# EAGLE library part 750312495 (library Midcom Inc - EAGLE Lib V2-0)
Package Style: EE20/10/6 Mounting: THT Pins: 10 pins Bobbin: 070-4989 Best pinouts for production vary per application. Please contact Wurth Electronics Midcom, Inc. for assistance with your custom design. Website: Wurth Electronics Midcom <http://www.we-online.com/midcom> Contact us Wurth Electronics Midcom, Inc. 121 Airport Dr. Watertown, SD 57201 Phone: (605) 886-4385 Fax: (605) 886-4486 E-Mail: midcom@we-online.com
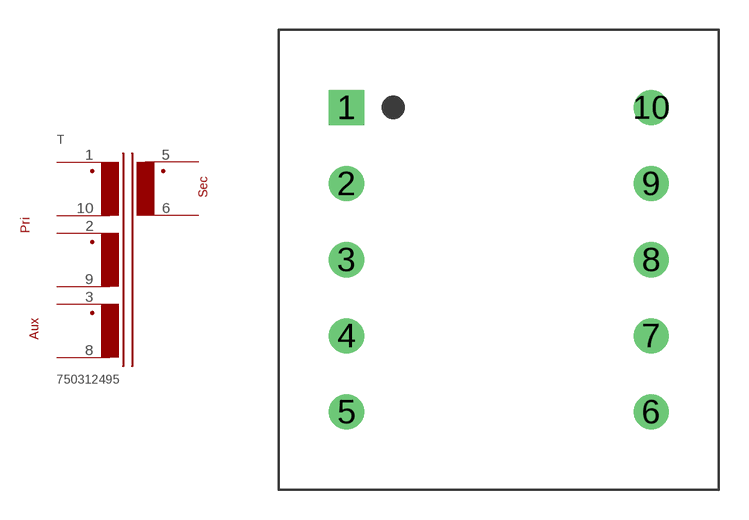
[diagram p152: symbol with the pads of EE20/10/6_THT_H_10PIN_(4989); footprint EE20/10/6_THT_H_10PIN_(4989)]

Designator prefix T

## 750312495  [EE20/10/6_THT_H_10PIN_(4989)]
1  1  pas
2  2  pas
3  3  pas
5  5  pas
6  6  pas
8  8  pas
9  9  pas
10  10  pas

## Footprint EE20/10/6_THT_H_10PIN_(4989) (pad centres in mm)
Package Style: EE20/10/6 Mounting: THT Pins: 10 Bobbin: 070-4989
drill 1.168 square: 1 -7.62,7.62
drill 1.168: 2 -7.62,3.81; 3 -7.62,0; 4 -7.62,-3.81; 5 -7.62,-7.62; 6 7.62,-7.62; 7 7.62,-3.81; 8 7.62,0; 9 7.62,3.81; 10 7.62,7.62